# EAGLE library part OPA2357 (library op-amp)
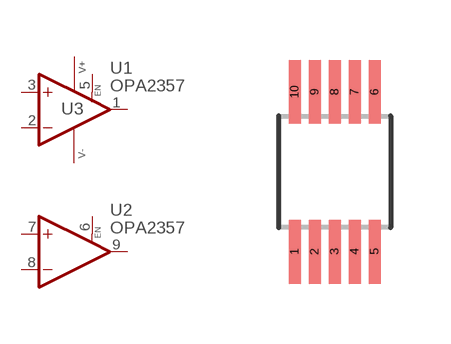
[diagram p67: symbol with the pads of MSOP10-POWERPAD; footprint MSOP10-POWERPAD]

Designator prefix U; gates 3=PWRN_V+- 1=OPAMP_EN2 2=OPAMP_EN2

## OPA2357 (DIGIKEY: 296-26261-1-ND)  [MSOP10-POWERPAD]
1  1:OUT  out
2  1:-IN  in
3  1:+IN  in
4  3:V-  pwr
5  1:EN  pas
6  2:EN  pas
7  2:+IN  in
8  2:-IN  in
9  2:OUT  out
10  3:V+  pwr

## Footprint MSOP10-POWERPAD (pad centres in mm)
MSOP-PowerPAD 10 DGQ Package, Texas Instruments
smd 0.3 x 1.6: 1 -1,-2; 2 -0.5,-2; 3 0,-2; 4 0.5,-2; 5 1,-2; 6 1,2; 7 0.5,2; 8 0,2; 9 -0.5,2; 10 -1,2